# Altium footprint library Captivate library.PcbLib: 39 footprints (part 3 of 3)
Each footprint in its own frame and in the unit in brackets; x right, y up, seen from the top. Pads: shape width x height; smd on the part's side, far side on the other; paste and mask are expansions set on the pad; w line width, h text height; cw(c..) or ccw(c..) is an arc to the next point about the centre after c.
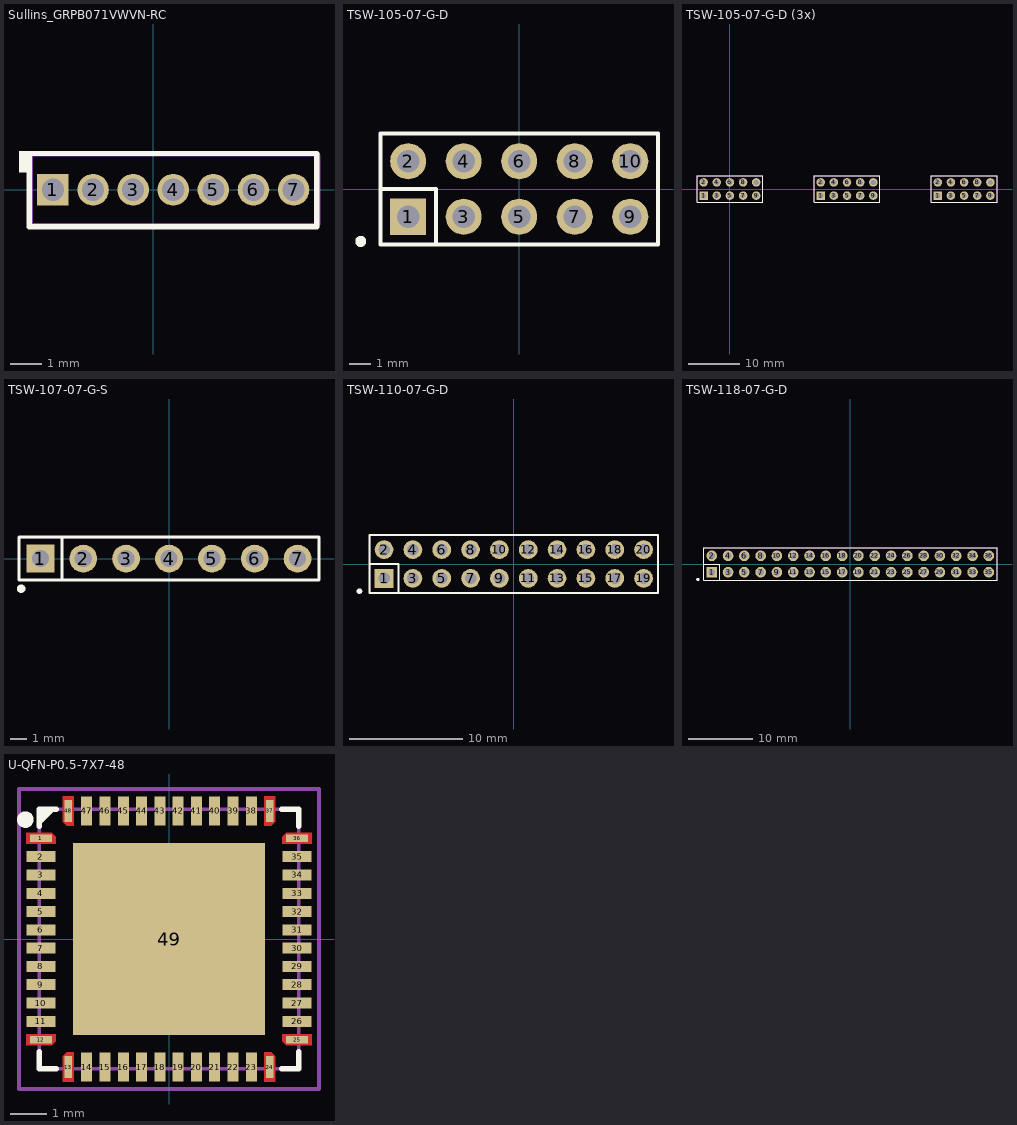
[diagram p2: the footprints below, top view; thin cyan lines are the x and y axes]

## Sullins_GRPB071VWVN-RC [mm] "SULLINS"
height 4
pads (7):
  rect 1x1 hole 0.7: 1(-3.175,0)
  round 1 hole 0.7: 2(-1.905,0) 3(-0.635,0) 4(0.635,0) 5(1.905,0) 6(3.175,0) 7(4.445,0)
Top Overlay:
  rectangle: -4.25,0.55 -3.925,1.225
  lines w0.17: -3.925,-1.175 5.175,-1.175 5.175,1.15 -3.925,1.15 -3.925,0.125 -3.925,-1.175
M5 Assembly Top:
  lines w0.1: -3.85,-1.1 5.25,-1.1 5.25,1.1 -3.85,1.1 -3.85,-1.1
  text ".Designator" at -1.9,-0.5 h1.02
3D body: height 4.3, standoff -2.3, extent -2.105,-0.2 -1.705,0.2
3D body: height 4.3, standoff -2.3, extent 0.435,-0.2 0.835,0.2
3D body: height 4.3, standoff -2.3, extent 1.705,-0.2 2.105,0.2
3D body: height 4.3, standoff -2.3, extent 2.975,-0.2 3.375,0.2
3D body: height 4.3, standoff -2.3, extent -0.835,-0.2 -0.435,0.2
3D body: height 4.3, standoff -2.3, extent -3.375,-0.2 -2.975,0.2
3D body: height 4.3, standoff -2.3, extent 4.245,-0.2 4.645,0.2
3D body: height 1.02, standoff 0, extent -3.9,-1.15 5.3,1.15

## TSW-105-07-G-D [mm] "Samtec 100mil, 2x5, 230 mil above insulator"
height 8.382
pads (10):
  rect 1.65x1.65 hole 1.016 mask+0: 1(-5.08,-1.27)
  round 1.65 hole 1.016 mask+0: 2(-5.08,1.27) 3(-2.54,-1.27) 4(-2.54,1.27) 5(0,-1.27) 6(0,1.27) 7(2.54,-1.27) 8(2.54,1.27) 9(5.08,-1.27) 10(5.08,1.27)
Top Overlay:
  circle w0.25: c-7.25,-2.4 r0.125
  lines w0.178: -6.35,0 -3.81,0 -3.81,-2.54 ; -6.35,-2.54 -6.35,2.54 6.35,2.54 6.35,-2.54 -6.35,-2.54
M5 Assembly Top:
  rectangle: -5.588,-1.778 -4.572,-0.762
  lines w0.127: -6.35,-2.54 6.35,-2.54 6.35,2.54 -6.35,2.54 -6.35,-2.54
  text ".Designator" at -1.524,-0.508 h1.02
3D body: height 8.38, standoff -2.54, extent -6.35,-2.54 6.35,2.54

## TSW-105-07-G-D (3x) [mm] "Samtec 100mil, 2x5, 230 mil above insulator"
height 8.382
pads (30):
  rect 1.65x1.65 hole 1.016 mask+0: 1(-5.08,-1.27) 1(17.526,-1.27) 1(40.132,-1.27)
  round 1.65 hole 1.016 mask+0: 2(-5.08,1.27) 2(17.526,1.27) 2(40.132,1.27) 3(-2.54,-1.27) 3(20.066,-1.27) 3(42.672,-1.27) 4(-2.54,1.27) 4(20.066,1.27) 4(42.672,1.27) 5(0,-1.27) 5(22.606,-1.27) 5(45.212,-1.27) 6(0,1.27) 6(22.606,1.27) 6(45.212,1.27) 7(2.54,-1.27) 7(25.146,-1.27) 7(47.752,-1.27) 8(2.54,1.27) 8(25.146,1.27) 8(47.752,1.27) 9(5.08,-1.27) 9(27.686,-1.27) 9(50.292,-1.27) 10(5.08,1.27) 10(27.686,1.27) 10(50.292,1.27)
Top Overlay:
  lines w0.178: -6.35,-2.54 -6.35,2.54 6.35,2.54 6.35,-2.54 -6.35,-2.54 ; 16.256,-2.54 28.956,-2.54 28.956,2.54 16.256,2.54 16.256,-2.54 ; 38.862,-2.54 51.562,-2.54 51.562,2.54 38.862,2.54 38.862,-2.54
M5 Assembly Top:
  rectangle: -5.588,-1.778 -4.572,-0.762
  rectangle: 17.018,-1.778 18.034,-0.762
  rectangle: 39.624,-1.778 40.64,-0.762
  lines w0.127: -6.35,-2.54 6.35,-2.54 6.35,2.54 -6.35,2.54 -6.35,-2.54 ; 16.256,-2.54 16.256,2.54 28.956,2.54 28.956,-2.54 16.256,-2.54 ; 38.862,-2.54 38.862,2.54 51.562,2.54 51.562,-2.54 38.862,-2.54
  text ".Designator" at -1.524,-0.508 h1.02
3D body: height 8.38, standoff -2.54, extent -6.35,-2.54 6.35,2.54
3D body: height 8.38, standoff -2.54, extent 16.256,-2.54 28.956,2.54
3D body: height 8.38, standoff -2.54, extent 38.862,-2.54 51.562,2.54

## TSW-107-07-G-S [mm] "Samtec 100mil, 1x7, 230 mil above insulator (modified silk - moved #1 dot)"
height 8.382
pads (7):
  rect 1.65x1.65 hole 1.016 mask+0: 1(-7.62,0)
  round 1.65 hole 1.016 mask+0: 2(-5.08,0) 3(-2.54,0) 4(0,0) 5(2.54,0) 6(5.08,0) 7(7.62,0)
Top Overlay:
  circle w0.25: c-8.761,-1.778 r0.125
  lines w0.178: -6.35,-1.27 -6.35,1.27 ; -8.89,-1.27 -8.89,1.27 8.89,1.27 8.89,-1.27 -8.89,-1.27
M5 Assembly Top:
  rectangle: -8.128,-0.508 -7.112,0.508
  lines w0.127: -8.89,-1.27 8.89,-1.27 8.89,1.27 -8.89,1.27 -8.89,-1.27
  text ".Designator" at -1.524,-0.508 h1.02
3D body: height 8.38, standoff -2.54, extent -8.89,-1.27 8.89,1.27

## TSW-110-07-G-D [mm] "Samtec 100mil, 2x10, 230 mil above insulator"
height 8.382
pads (20):
  rect 1.65x1.65 hole 1.016 mask+0: 1(-11.43,-1.27)
  round 1.65 hole 1.016 mask+0: 2(-11.43,1.27) 3(-8.89,-1.27) 4(-8.89,1.27) 5(-6.35,-1.27) 6(-6.35,1.27) 7(-3.81,-1.27) 8(-3.81,1.27) 9(-1.27,-1.27) 10(-1.27,1.27) 11(1.27,-1.27) 12(1.27,1.27) 13(3.81,-1.27) 14(3.81,1.27) 15(6.35,-1.27) 16(6.35,1.27) 17(8.89,-1.27) 18(8.89,1.27) 19(11.43,-1.27) 20(11.43,1.27)
Top Overlay:
  circle w0.25: c-13.6,-2.4 r0.125
  lines w0.178: -12.7,0 -10.16,0 -10.16,-2.54 ; -12.7,-2.54 12.7,-2.54 12.7,2.54 -12.7,2.54 -12.7,-2.54
M5 Assembly Top:
  rectangle: -11.938,-1.778 -10.922,-0.762
  lines w0.127: -12.7,-2.54 -12.7,2.54 12.7,2.54 12.7,-2.54 -12.7,-2.54
  text ".Designator" at -1.524,-0.508 h1.02
3D body: height 8.38, standoff -2.54, extent -12.7,-2.54 12.7,2.54

## TSW-118-07-G-D [mm] "Samtec 100mil, 2x18, 230 mil above insulator"
height 8.382
pads (36):
  rect 1.65x1.65 hole 1.016 mask+0: 1(-21.59,-1.27)
  round 1.65 hole 1.016 mask+0: 2(-21.59,1.27) 3(-19.05,-1.27) 4(-19.05,1.27) 5(-16.51,-1.27) 6(-16.51,1.27) 7(-13.97,-1.27) 8(-13.97,1.27) 9(-11.43,-1.27) 10(-11.43,1.27) 11(-8.89,-1.27) 12(-8.89,1.27) 13(-6.35,-1.27) 14(-6.35,1.27) 15(-3.81,-1.27) 16(-3.81,1.27) 17(-1.27,-1.27) 18(-1.27,1.27) 19(1.27,-1.27) 20(1.27,1.27) 21(3.81,-1.27) 22(3.81,1.27) 23(6.35,-1.27) 24(6.35,1.27) 25(8.89,-1.27) 26(8.89,1.27) 27(11.43,-1.27) 28(11.43,1.27) 29(13.97,-1.27) 30(13.97,1.27) 31(16.51,-1.27) 32(16.51,1.27) 33(19.05,-1.27) 34(19.05,1.27) 35(21.59,-1.27) 36(21.59,1.27)
Top Overlay:
  circle w0.25: c-23.76,-2.4 r0.125
  lines w0.178: -22.86,0 -20.32,0 -20.32,-2.54 ; -22.86,-2.54 -22.86,2.54 22.86,2.54 22.86,-2.54 -22.86,-2.54
M5 Assembly Top:
  rectangle: -22.098,-1.778 -21.082,-0.762
  lines w0.127: -22.86,-2.54 22.86,-2.54 22.86,2.54 -22.86,2.54 -22.86,-2.54
  text ".Designator" at -1.524,-0.508 h1.02
3D body: height 8.38, standoff -2.54, extent -22.86,-2.54 22.86,2.54

## U-QFN-P0.5-7X7-48 [mm] "IQS550 footprint from Azoteq"
pads (49):
  rect 0.6x0.2 smd: 1(-3.5,2.75) 12(-3.5,-2.75) 25(3.5,-2.75) 36(3.5,2.75)
  rect 0.8x0.3 smd: 2(-3.5,2.25) 3(-3.5,1.75) 4(-3.5,1.25) 5(-3.5,0.75) 6(-3.5,0.25) 7(-3.5,-0.25) 8(-3.5,-0.75) 9(-3.5,-1.25) 10(-3.5,-1.75) 11(-3.5,-2.25) 26(3.5,-2.25) 27(3.5,-1.75) 28(3.5,-1.25) 29(3.5,-0.75) 30(3.5,-0.25) 31(3.5,0.25) 32(3.5,0.75) 33(3.5,1.25) 34(3.5,1.75) 35(3.5,2.25)
  rect 0.2x0.6 smd: 13(-2.75,-3.5) 24(2.75,-3.5) 37(2.75,3.5) 48(-2.75,3.5)
  rect 0.3x0.8 smd: 14(-2.25,-3.5) 15(-1.75,-3.5) 16(-1.25,-3.5) 17(-0.75,-3.5) 18(-0.25,-3.5) 19(0.25,-3.5) 20(0.75,-3.5) 21(1.25,-3.5) 22(1.75,-3.5) 23(2.25,-3.5) 38(2.25,3.5) 39(1.75,3.5) 40(1.25,3.5) 41(0.75,3.5) 42(0.25,3.5) 43(-0.25,3.5) 44(-0.75,3.5) 45(-1.25,3.5) 46(-1.75,3.5) 47(-2.25,3.5)
  rect 5.25x5.25 smd paste-5.25: 49(0,0)
Top Layer:
  region: 3.9,-2.9 3.2,-2.9 3.1,-2.8 3.1,-2.6 3.9,-2.6
  region: 2.9,3.9 2.9,3.2 2.8,3.1 2.6,3.1 2.6,3.9
  region: 3.9,2.9 3.2,2.9 3.1,2.8 3.1,2.6 3.9,2.6
  region: -2.9,3.9 -2.9,3.2 -2.8,3.1 -2.6,3.1 -2.6,3.9
  region: 2.9,-3.9 2.9,-3.2 2.8,-3.1 2.6,-3.1 2.6,-3.9
  region: -2.9,-3.9 -2.9,-3.2 -2.8,-3.1 -2.6,-3.1 -2.6,-3.9
  region: -3.9,-2.9 -3.2,-2.9 -3.1,-2.8 -3.1,-2.6 -3.9,-2.6
  region: -3.9,2.9 -3.2,2.9 -3.1,2.8 -3.1,2.6 -3.9,2.6
Top Overlay:
  circle w0.254: c-3.928,3.264 r0.1
  region: -3.578,3.564 -3.078,3.564 -3.578,3.064
  lines w0.15: -3.55,-3.075 -3.55,-3.55 -3.075,-3.55 ; -3.55,3.075 -3.55,3.55 -3.075,3.55 ; 3.075,-3.55 3.55,-3.55 3.55,-3.075 ; 3.075,3.55 3.55,3.55 3.55,3.075
Top Paste:
  region: -2.5,-1.4 -1.4,-1.4 -1.4,-2.5 -2.5,-2.5
  region: 1.4,-1.4 2.5,-1.4 2.5,-2.5 1.4,-2.5
  region: 0.1,-1.4 1.2,-1.4 1.2,-2.5 0.1,-2.5
  region: -1.2,-1.4 -0.1,-1.4 -0.1,-2.5 -1.2,-2.5
  region: -2.5,-0.1 -1.4,-0.1 -1.4,-1.2 -2.5,-1.2
  region: 1.4,-0.1 2.5,-0.1 2.5,-1.2 1.4,-1.2
  region: 0.1,-0.1 1.2,-0.1 1.2,-1.2 0.1,-1.2
  region: -1.2,-0.1 -0.1,-0.1 -0.1,-1.2 -1.2,-1.2
  region: -2.5,1.2 -1.4,1.2 -1.4,0.1 -2.5,0.1
  region: 1.4,1.2 2.5,1.2 2.5,0.1 1.4,0.1
  region: 0.1,1.2 1.2,1.2 1.2,0.1 0.1,0.1
  region: -1.2,1.2 -0.1,1.2 -0.1,0.1 -1.2,0.1
  region: -1.2,2.5 -0.1,2.5 -0.1,1.4 -1.2,1.4
  region: 0.1,2.5 1.2,2.5 1.2,1.4 0.1,1.4
  region: 1.4,2.5 2.5,2.5 2.5,1.4 1.4,1.4
  region: -2.5,2.5 -1.4,2.5 -1.4,1.4 -2.5,1.4
M13 Component Bodies Top:
  lines w0.1: -3.55,-3.55 3.55,-3.55 3.55,3.55 -3.55,3.55 -3.55,-3.55
  text "12" at -3.4,-2.1 h1.5
  text "1" at -3.4,3.05 h1.5
  text ".Designator" at -3.25,-0.35 h1.5
M15  Courtyards Top:
  lines w0.1: -0.5,0 0.5,0 ; 0,-0.5 0,0.5 ; -4.1,-4.1 4.1,-4.1 4.1,4.1 -4.1,4.1 -4.1,-4.1
3D body: height 0.8, standoff 0, extent -3.55,-3.55 3.55,3.55